# Altium footprint library SCMQ14F474PRBA0.PcbLib: 1 footprints
Each footprint in its own frame and in the unit in brackets; x right, y up, seen from the top. Pads: shape width x height; smd on the part's side, far side on the other; paste and mask are expansions set on the pad; w line width, h text height; cw(c..) or ccw(c..) is an arc to the next point about the centre after c.
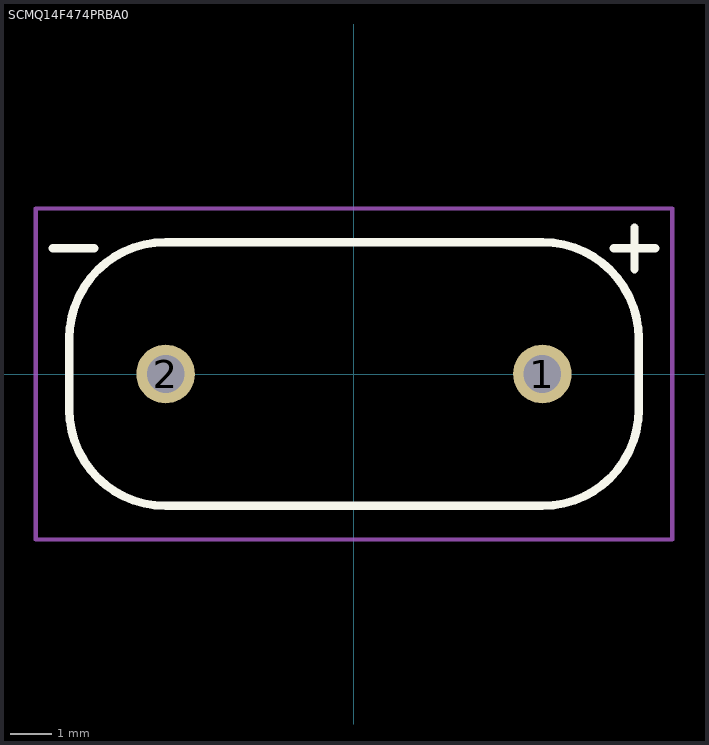
[diagram p0: the footprint, top view; thin cyan lines are the x and y axes]

## SCMQ14F474PRBA0 [mm]
pads (2):
  round 1.4 hole 0.9: 1(4.5,0) 2(-4.5,0)
Top Overlay:
  lines w0.2: -7.2,3 -6.2,3 ; 6.2,3 7.2,3 ; 6.7,2.5 6.7,3.5 ; -4.5,-3.15 cw(c-4.5,-0.85) -6.8,-0.85 -6.8,0.85 cw(c-4.5,0.85) -4.5,3.15 4.5,3.15 ; -4.5,-3.15 ccw(c-4.5,-3.15) -4.5,-3.15 ; -4.5,-3.15 4.5,-3.15 ccw(c4.5,-0.85) 6.8,-0.85 6.8,0.85 ccw(c4.5,0.85) 4.5,3.15 ; 4.5,3.15 ccw(c4.5,3.15) 4.5,3.15 ; 4.5,3.15 4.5,3.15
Top Courtyard:
  lines w0.1: -7.6,-0.85 -7.6,-3.95 ; -4.5,-3.95 -7.6,-3.95 ; 4.5,3.95 7.6,3.95 ; 7.6,0.85 7.6,3.95 ; -7.6,-3.95 -7.6,3.95 7.6,3.95 ; -7.6,-3.95 7.6,-3.95 7.6,3.95
3D body: height 14, standoff 0.2, extent -6.8,-3.15 6.8,3.15